# Altium schematic symbol library Con_FFC20.Schlib: 1 symbol
Pins are listed as number, name and electrical type; pins without a type are passive.

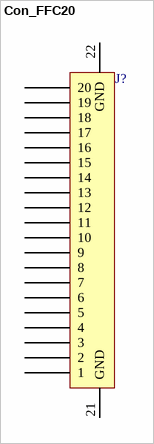
[diagram p0: symbol Con_FFC20]

## Con_FFC20
designator J?
Connector, FFC, 20 pin
pins: 1, 2, 3, 4, 5, 6, 7, 8, 9, 10, 11, 12, 13, 14, 15, 16, 17, 18, 19, 20, 21 GND (power), 22 GND (power)